# EAGLE library part RV8803C7 (library golledge)
Real Time Clock Module |I2C Bus| Ultra Low Power |Temperature compensated High accuracy, ultra low power Built-in crystal for adjustment-free operation Time stamp event input function I2C-Bus interface (up to 400kHz) Programmable alarm, timer and interrupt User RAM Datasheet and Purchasing Information <http://www.golledge.com/docs/products/rtcs/rv8803c7.htm?src=eagle>
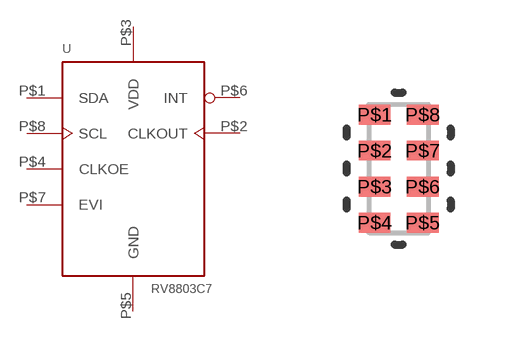
[diagram p0: symbol with the pads of RTC-C7; footprint RTC-C7]

Designator prefix U

## RV8803C7 (HEIGHT: 0.8; MPN: MP06786)  [RTC-C7]
P$1  SDA  in
P$2  CLKOUT  out
P$3  VDD  pwr
P$4  CLKOE  in
P$5  GND  pwr
P$6  INT  out
P$7  EVI  in
P$8  SCL  in

## Footprint RTC-C7 (pad centres in mm)
RTC in C7 package
smd 0.8 x 0.5: P$1 -0.6,1.35; P$2 -0.6,0.45; P$3 -0.6,-0.45; P$4 -0.6,-1.35; P$5 0.6,-1.35; P$6 0.6,-0.45; P$7 0.6,0.45; P$8 0.6,1.35